# EAGLE library part USB_MICROB_PLUG (library TestUSBs)
USB Micro-B connectors Some male, some female. Watch your step!
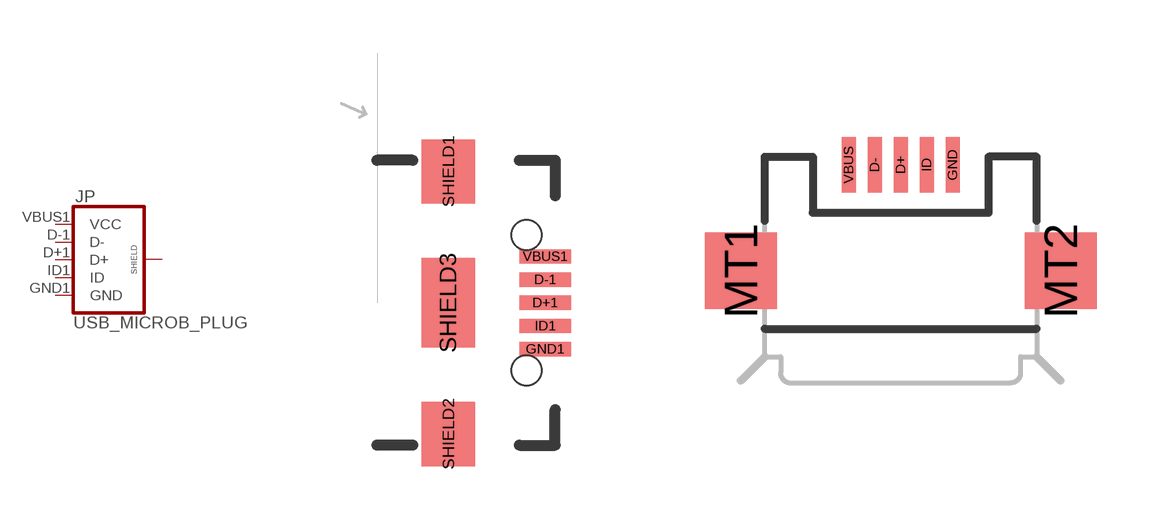
[diagram p0: symbol with the pads of USB-B-MICRO-SMD_V03; footprints USB-B-MICRO-SMD_V03, CHARGERS]

Designator prefix JP

## USB_MICROB_PLUGCONN-11752 (PROD_ID: CONN-11752)  [USB-B-MICRO-SMD_V03]
D+1  D+
D-1  D-
GND1  GND
ID1  ID
SHIELD1  SHIELD
SHIELD2  SHIELD
SHIELD3  SHIELD
VBUS1  VCC

## USB_MICROB_PLUG  [CHARGERS]
D+  D+
D-  D-
GND  GND
ID  ID
MT1  SHIELD
MT2  SHIELD
VBUS  VCC

## USB_MICROB_PLUGBOSS25  [USB-MICRO-BOSS-01]
Pads as for USB-B-MICRO-SMD_V03

## USB_MICROB_PLUGBOSS30  [USB-MICRO-BOSS-02]
Pads as for USB-B-MICRO-SMD_V03

## USB_MICROB_PLUGPASTE-LONG-N-SKINNY  [USB-MICRO-PASTE-01]
Pads as for USB-B-MICRO-SMD_V03

## USB_MICROB_PLUGPASTE-SMALL  [USB-MICRO-PASTE-02]
Pads as for USB-B-MICRO-SMD_V03

## USB_MICROB_PLUGSTUBS  [USB-MICRO-STUBS-01]
Pads as for USB-B-MICRO-SMD_V03

## Footprint USB-B-MICRO-SMD_V03 (pad centres in mm)
smd 1.45 x 0.4: D+1 2.725,0; D-1 2.725,0.65; GND1 2.725,-1.3; ID1 2.725,-0.65; VBUS1 2.725,1.3
smd 1.5 x 1.8: SHIELD1 0,3.685; SHIELD2 0,-3.685
smd 1.5 x 2.5: SHIELD3 0,0
hole 0.85 at 2.2,1.9
hole 0.85 at 2.2,-1.9

## Footprint CHARGERS (pad centres in mm)
Micro USB Package
smd 0.35 x 1.4: D+ 0,2.65; D- -0.65,2.65; GND 1.3,2.65; ID 0.65,2.65; VBUS -1.3,2.65
smd 1.8 x 1.9: MT1 -4,0; MT2 4,0

## Footprint USB-MICRO-BOSS-01 (pad centres in mm)
smd 1.45 x 0.4: D+1 2.725,0; D-1 2.725,0.65; GND1 2.725,-1.3; ID1 2.725,-0.65; VBUS1 2.725,1.3
smd 1.5 x 1.8: SHIELD1 0,3.685; SHIELD2 0,-3.685
smd 1.5 x 2.5: SHIELD3 0,0
hole 0.635 at 2.2,1.9
hole 0.635 at 2.2,-1.9

## Footprint USB-MICRO-BOSS-02 (pad centres in mm)
smd 1.45 x 0.4: D+1 2.725,0; D-1 2.725,0.65; GND1 2.725,-1.3; ID1 2.725,-0.65; VBUS1 2.725,1.3
smd 1.5 x 1.8: SHIELD1 0,3.685; SHIELD2 0,-3.685
smd 1.5 x 2.5: SHIELD3 0,0
hole 0.762 at 2.2,1.9
hole 0.762 at 2.2,-1.9

## Footprint USB-MICRO-PASTE-01 (pad centres in mm)
smd 1.45 x 0.4: D+1 2.725,0; D-1 2.725,0.65; GND1 2.725,-1.3; ID1 2.725,-0.65; VBUS1 2.725,1.3
smd 1.5 x 1.8: SHIELD1 0,3.685; SHIELD2 0,-3.685
smd 1.5 x 2.5: SHIELD3 0,0
hole 0.762 at 2.2,1.9
hole 0.762 at 2.2,-1.9

## Footprint USB-MICRO-PASTE-02 (pad centres in mm)
smd 1.45 x 0.4: D+1 2.725,0; D-1 2.725,0.65; GND1 2.725,-1.3; ID1 2.725,-0.65; VBUS1 2.725,1.3
smd 1.5 x 1.8: SHIELD1 0,3.685; SHIELD2 0,-3.685
smd 1.5 x 2.5: SHIELD3 0,0
hole 0.762 at 2.2,1.9
hole 0.762 at 2.2,-1.9

## Footprint USB-MICRO-STUBS-01 (pad centres in mm)
smd 1.45 x 0.4: D+1 2.725,0; D-1 2.725,0.65; GND1 2.725,-1.3; ID1 2.725,-0.65; VBUS1 2.725,1.3
smd 1.5 x 1.8: SHIELD1 0,3.685; SHIELD2 0,-3.685
smd 1.5 x 2.5: SHIELD3 0,0
hole 0.85 at 2.2,1.9
hole 0.85 at 2.2,-1.9